# Altium schematic symbol library SCH - POWER - SWITCHMODE - TI TPS53317ARGB.SchLib: 1 symbol
Pins are listed as number, name and electrical type; pins without a type are passive.

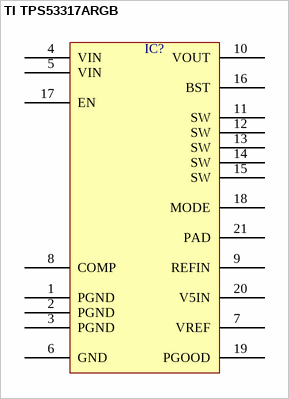
[diagram p0: symbol TI TPS53317ARGB]

## TI TPS53317ARGB
designator IC?  (value not drawn)
pins: 1 PGND, 2 PGND, 3 PGND, 4 VIN, 5 VIN, 6 GND, 7 VREF, 8 COMP, 9 REFIN, 10 VOUT, 11 SW, 12 SW, 13 SW, 14 SW, 15 SW, 16 BST, 17 EN, 18 MODE, 19 PGOOD, 20 V5IN, 21 PAD